# EAGLE library part MBI1801 (library IC)
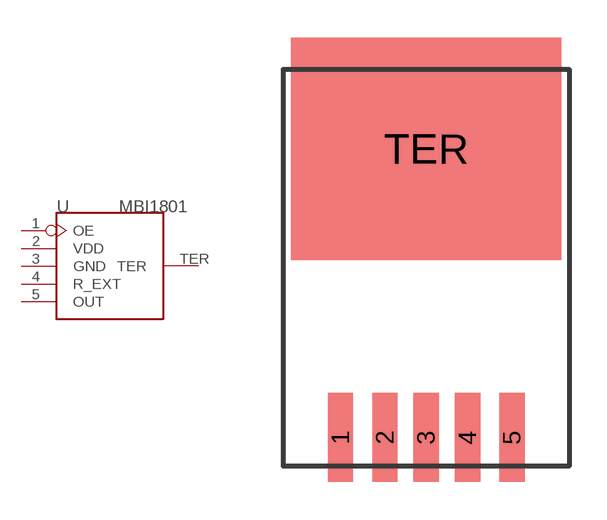
[diagram p73: symbol with the pads of TO265; footprint TO265]

Designator prefix U

## MBI1801-TO265  [TO265]
1  OE  in
2  VDD  sup
3  GND  sup
4  R_EXT
5  OUT  out
TER  TER

## Footprint TO265 (pad centres in mm)
TO-263
smd 1.016 x 3.556: 1 -3.429,-7.112; 2 -1.651,-7.112; 3 0,-7.112; 4 1.651,-7.112; 5 3.429,-7.112
smd 10.795 x 8.89: TER 0,4.445